# EAGLE library part TDA1517ATW (library Audio-Power-amlifier)
8 W BTL or 2 ´ 4 W SE power amplifier
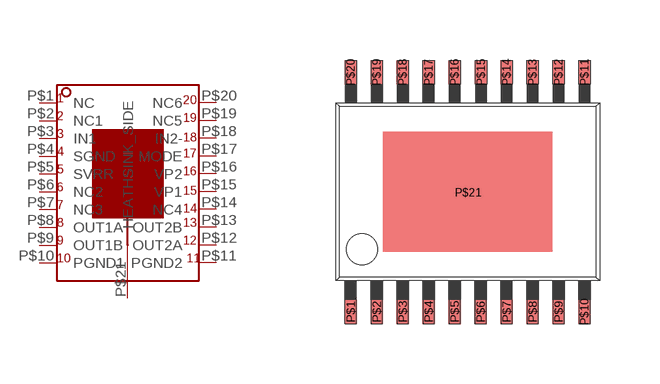
[diagram p32: symbol with the pads of SOT527-1; footprint SOT527-1]

Designator prefix IC

## TDA1517ATW  [SOT527-1]
P$1  NC  nc
P$2  NC1  nc
P$3  IN1  in
P$4  SGND  pwr
P$5  SVRR
P$6  NC2  nc
P$7  NC3  nc
P$8  OUT1A  out
P$9  OUT1B  out
P$10  PGND1  pwr
P$11  PGND2  pwr
P$12  OUT2A  out
P$13  OUT2B  out
P$14  NC4  nc
P$15  VP1  pwr
P$16  VP2  pwr
P$17  MODE
P$18  IN2-  in
P$19  NC5  nc
P$20  NC6  nc
P$21  HEATHSINK_SIDE  pwr

## Footprint SOT527-1 (pad centres in mm)
smd 0.305 x 0.61: P$1 -2.925,-2.995; P$2 -2.275,-2.995; P$3 -1.625,-2.995; P$4 -0.975,-2.995; P$5 -0.325,-2.995; P$6 0.325,-2.995; P$7 0.975,-2.995; P$8 1.625,-2.995; P$9 2.275,-2.995; P$10 2.925,-2.995; P$11 2.925,2.995; P$12 2.275,2.995; P$13 1.625,2.995; P$14 0.975,2.995; P$15 0.335,2.995; P$16 -0.325,2.995; P$17 -0.975,2.995; P$18 -1.625,2.995; P$19 -2.275,2.995; P$20 -2.925,2.995
smd 0.61 x 0.305: P$21 0.015,-0.015